# Altium integrated library ON Semi Signal Management IO Expanders.IntLib: 48 symbols (part 1 of 3)
Pins are listed as number, name and electrical type; pins without a type are passive.

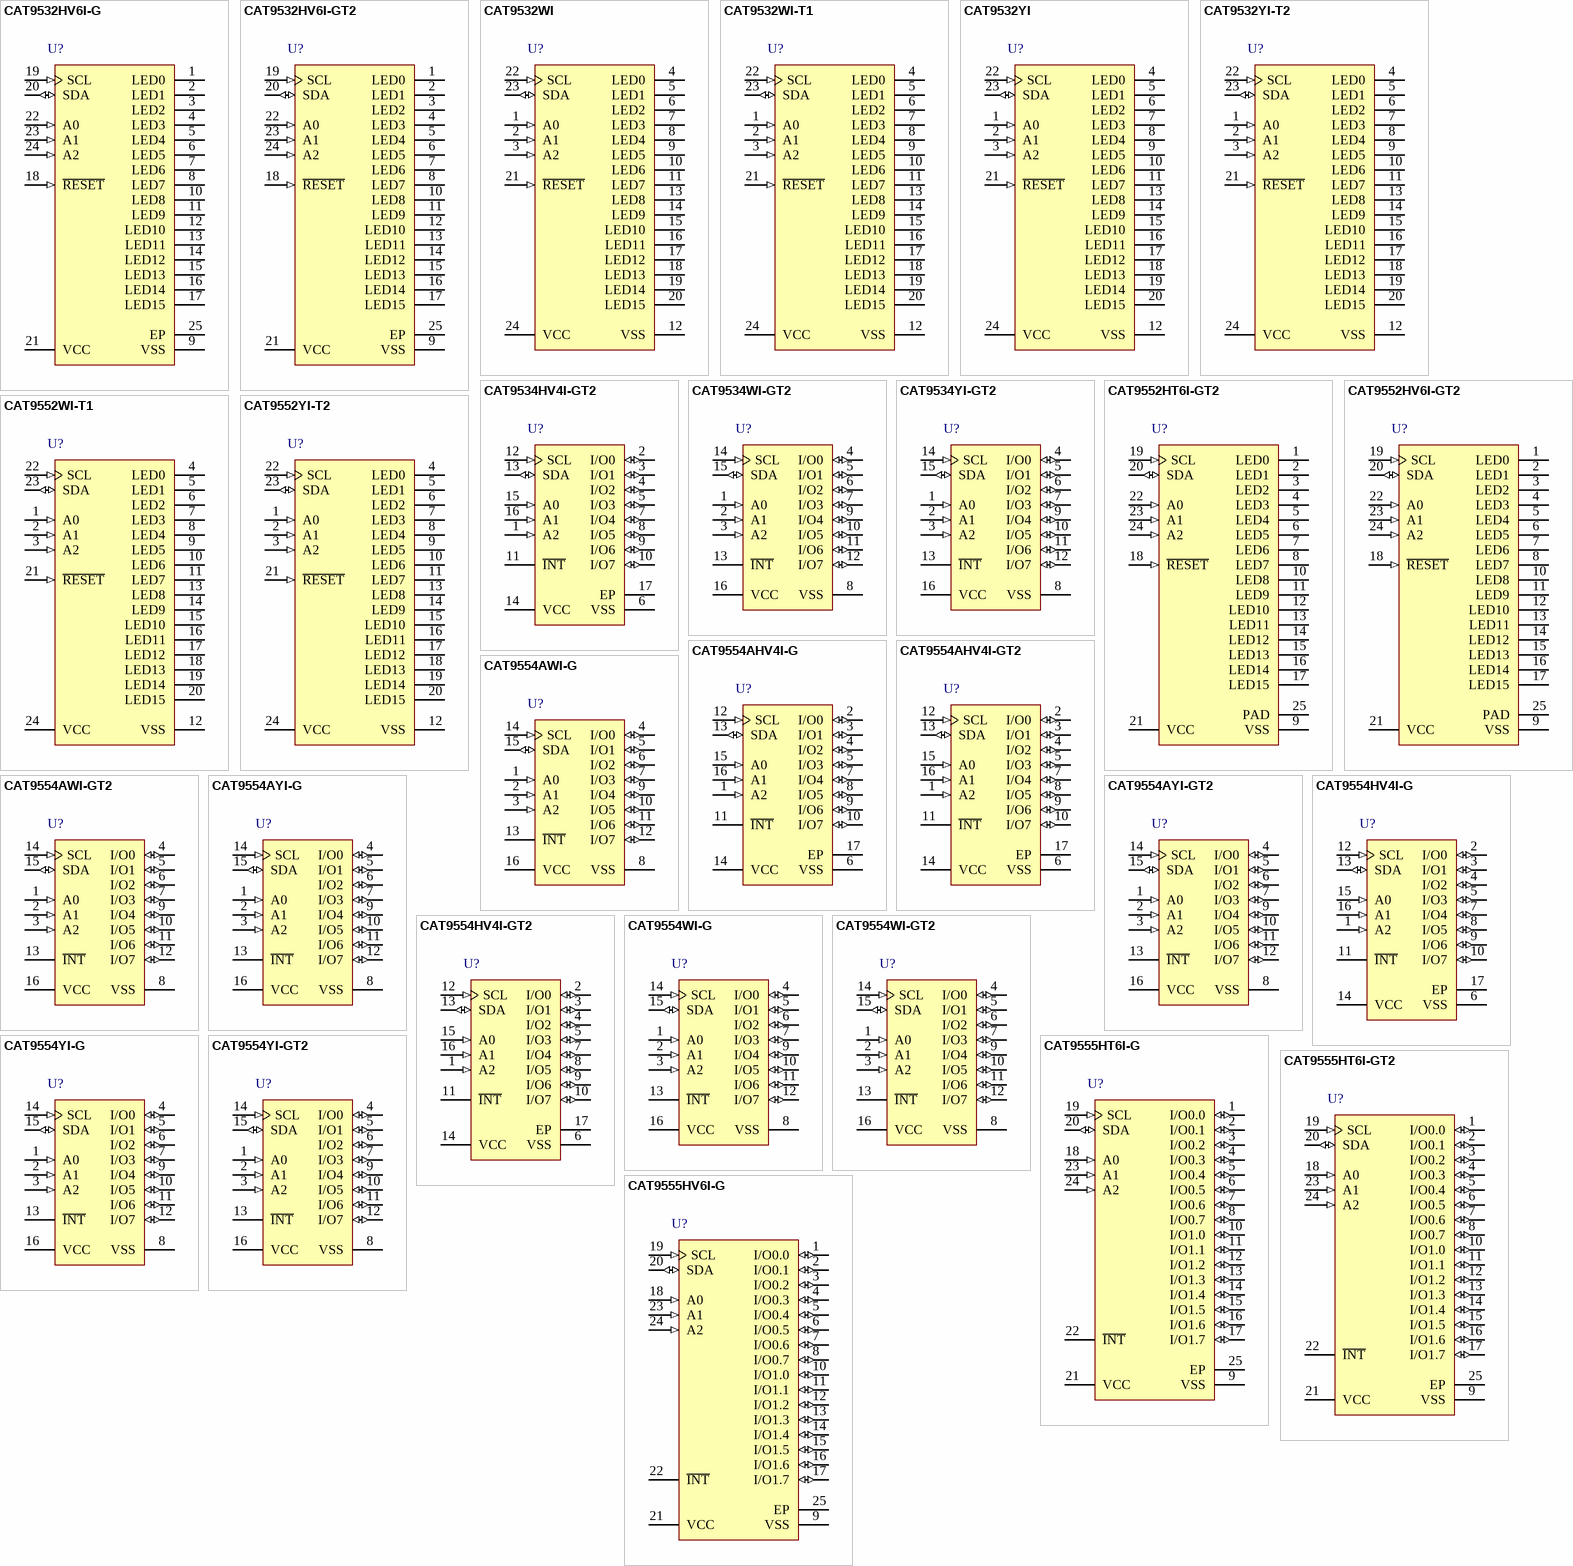
[diagram p0: symbols CAT9532HV6I-G to CAT9555HV6I-G]

## CAT9532HV6I-G
designator U?
16-Bit Programmable LED Dimmer with I2C Interface, 2.3 to 5.5 V, -40 to 85 degC, 24-Pin TQFN, Pb-Free, Tube; Manufacturer: On Semiconductor; PartNumber: CAT9532HV6I-G; I/O: 16; LED Blink/PWM: Yes; VCC Max (V): 5.5; VCC Min (V): 2.3; DatasheetVersion: Rev. 4; PackageVersion: Rev. B, 12/2009; PackageReference: TQFN-24-510AG-01; PackageDescription: 24-Pin Quad Flat No-Lead, Body 4 x 4 mm, Pitch 0.5 mm; Packing: Tube; RoHS: TRUE; Mounting Technology: Surface Mount; Code_JEDEC: MO-220; ComponentLink1Description: Manufacturer URL; ComponentLink1URL: http://www.onsemi.com/; ComponentLink2Description: Datasheet; ComponentLink2URL: http://www.onsemi.com/pub_link/Collateral/CAT9532-D.PDF; ComponentLink3Description: Package Specification; ComponentLink3URL: http://www.onsemi.com/pub_link/Collateral/510AG.PDF
footprint ONSC-TQFN-24-510AG-01_N (QFN, 24-Leads, Body 4x4mm, Pitch 0.5mm, Thermal Pad 2.8x2.8mm, IPC Medium Density)
footprint ONSC-TQFN-24-510AG-01_L (QFN, 24-Leads, Body 4x4mm, Pitch 0.5mm, Thermal Pad 2.8x2.8mm, IPC High Density)
footprint ONSC-TQFN-24-510AG-01_M (QFN, 24-Leads, Body 4x4mm, Pitch 0.5mm, Thermal Pad 2.8x2.8mm, IPC Low Density)
pins: 1 LED0 (power) "LED Driver Output 0,  I/O Port 0", 2 LED1 (power) "LED Driver Output 1,  I/O Port 1", 3 LED2 (power) "LED Driver Output 2,  I/O Port 2", 4 LED3 (power) "LED Driver Output 3,  I/O Port 3", 5 LED4 (power) "LED Driver Output 4,  I/O Port 4", 6 LED5 (power) "LED Driver Output 5,  I/O Port 5", 7 LED6 (power) "LED Driver Output 6,  I/O Port 6", 8 LED7 (power) "LED Driver Output 7,  I/O Port 7", 9 VSS (power) "Ground", 10 LED8 (power) "LED Driver Output 8,  I/O Port 8", 11 LED9 (power) "LED Driver Output 9,  I/O Port 9", 12 LED10 (power) "LED Driver Output 10,  I/O Port 10", 13 LED11 (power) "LED Driver Output 11,  I/O Port 11", 14 LED12 (power) "LED Driver Output 12,  I/O Port 12", 15 LED13 (power) "LED Driver Output 13,  I/O Port 13", 16 LED14 (power) "LED Driver Output 14,  I/O Port 14", 17 LED15 (power) "LED Driver Output 15,  I/O Port 15", 18 ~{RESET} (in) "Reset Input", 19 SCL (in) "Serial Clock", 20 SDA (io) "Serial Data", 21 VCC (power) "Power Supply", 22 A0 (in) "Address Input 0", 23 A1 (in) "Address Input 1", 24 A2 (in) "Address Input 2", 25 EP

## CAT9532HV6I-GT2
designator U?
16-Bit Programmable LED Dimmer with I2C Interface, 2.3 to 5.5 V, -40 to 85 degC, 24-Pin TQFN, Pb-Free, Tape and Reel; Manufacturer: On Semiconductor; PartNumber: CAT9532HV6I-GT2; I/O: 16; LED Blink/PWM: Yes; VCC Max (V): 5.5; VCC Min (V): 2.3; DatasheetVersion: Rev. 4; PackageVersion: Rev. B, 12/2009; PackageReference: TQFN-24-510AG-01; PackageDescription: 24-Pin Quad Flat No-Lead, Body 4 x 4 mm, Pitch 0.5 mm; Supplier 1: Digi-Key; Supplier Part Number 1: CAT9532HV6I-GT2TR-ND; Supplier 2: Digi-Key; Supplier Part Number 2: CAT9532HV6I-GT2CT-ND; Supplier 3: Digi-Key; Supplier Part Number 3: CAT9532HV6I-GT2DKR-ND; Supplier 4: Newark; Supplier Part Number 4: 08R5461; Supplier 5: Newark; Supplier Part Number 5: 06R1482; Supplier 6: Mouser; Supplier Part Number 6: 698-CAT9532HV6I-GT2; Packing: Tape and Reel; RoHS: TRUE; Mounting Technology: Surface Mount; Code_JEDEC: MO-220; ComponentLink1Description: Manufacturer URL; ComponentLink1URL: http://www.onsemi.com/; ComponentLink2Description: Datasheet; ComponentLink2URL: http://www.onsemi.com/pub_link/Collateral/CAT9532-D.PDF; ComponentLink3Description: Package Specification; ComponentLink3URL: http://www.onsemi.com/pub_link/Collateral/510AG.PDF
footprint ONSC-TQFN-24-510AG-01_N (QFN, 24-Leads, Body 4x4mm, Pitch 0.5mm, Thermal Pad 2.8x2.8mm, IPC Medium Density)
footprint ONSC-TQFN-24-510AG-01_L (QFN, 24-Leads, Body 4x4mm, Pitch 0.5mm, Thermal Pad 2.8x2.8mm, IPC High Density)
footprint ONSC-TQFN-24-510AG-01_M (QFN, 24-Leads, Body 4x4mm, Pitch 0.5mm, Thermal Pad 2.8x2.8mm, IPC Low Density)
pins: 1 LED0 (power) "LED Driver Output 0,  I/O Port 0", 2 LED1 (power) "LED Driver Output 1,  I/O Port 1", 3 LED2 (power) "LED Driver Output 2,  I/O Port 2", 4 LED3 (power) "LED Driver Output 3,  I/O Port 3", 5 LED4 (power) "LED Driver Output 4,  I/O Port 4", 6 LED5 (power) "LED Driver Output 5,  I/O Port 5", 7 LED6 (power) "LED Driver Output 6,  I/O Port 6", 8 LED7 (power) "LED Driver Output 7,  I/O Port 7", 9 VSS (power) "Ground", 10 LED8 (power) "LED Driver Output 8,  I/O Port 8", 11 LED9 (power) "LED Driver Output 9,  I/O Port 9", 12 LED10 (power) "LED Driver Output 10,  I/O Port 10", 13 LED11 (power) "LED Driver Output 11,  I/O Port 11", 14 LED12 (power) "LED Driver Output 12,  I/O Port 12", 15 LED13 (power) "LED Driver Output 13,  I/O Port 13", 16 LED14 (power) "LED Driver Output 14,  I/O Port 14", 17 LED15 (power) "LED Driver Output 15,  I/O Port 15", 18 ~{RESET} (in) "Reset Input", 19 SCL (in) "Serial Clock", 20 SDA (io) "Serial Data", 21 VCC (power) "Power Supply", 22 A0 (in) "Address Input 0", 23 A1 (in) "Address Input 1", 24 A2 (in) "Address Input 2", 25 EP

## CAT9532WI
designator U?
16-Bit Programmable LED Dimmer with I2C Interface, 2.3 to 5.5 V, -40 to 85 degC, 24-Pin SOIC, Pb-Free, Tube; Manufacturer: On Semiconductor; PartNumber: CAT9532WI; I/O: 16; LED Blink/PWM: Yes; VCC Max (V): 5.5; VCC Min (V): 2.3; DatasheetVersion: Rev. 4; PackageVersion: Rev. O, 12/2008; PackageReference: SOIC-24-751BK-01; PackageDescription: 24-Pin Small Outline Integrated Circuit, Body 15.3 x 7.47 mm, Pitch 1.27 mm; Supplier 1: Mouser; Supplier Part Number 1: 698-CAT9532WI; Packing: Tube; RoHS: TRUE; Mounting Technology: Surface Mount; Code_JEDEC: MS-013; ComponentLink1Description: Manufacturer URL; ComponentLink1URL: http://www.onsemi.com/; ComponentLink2Description: Datasheet; ComponentLink2URL: http://www.onsemi.com/pub_link/Collateral/CAT9532-D.PDF; ComponentLink3Description: Package Specification; ComponentLink3URL: http://www.onsemi.com/pub/Collateral/751BK.PDF
footprint ONSC-SOIC-24-751BK-01_N (SOIC, 24-Leads, Body 15.4x7.6mm, Pitch 1.27mm, IPC Medium Density)
footprint ONSC-SOIC-24-751BK-01_L (SOIC, 24-Leads, Body 15.4x7.6mm, Pitch 1.27mm, IPC High Density)
footprint ONSC-SOIC-24-751BK-01_M (SOIC, 24-Leads, Body 15.4x7.6mm, Pitch 1.27mm, IPC Low Density)
pins: 1 A0 (in) "Address Input 0", 2 A1 (in) "Address Input 1", 3 A2 (in) "Address Input 2", 4 LED0 (power) "LED Driver Output 0,  I/O Port 0", 5 LED1 (power) "LED Driver Output 1,  I/O Port 1", 6 LED2 (power) "LED Driver Output 2,  I/O Port 2", 7 LED3 (power) "LED Driver Output 3,  I/O Port 3", 8 LED4 (power) "LED Driver Output 4,  I/O Port 4", 9 LED5 (power) "LED Driver Output 5,  I/O Port 5", 10 LED6 (power) "LED Driver Output 6,  I/O Port 6", 11 LED7 (power) "LED Driver Output 7,  I/O Port 7", 12 VSS (power) "Ground", 13 LED8 (power) "LED Driver Output 8,  I/O Port 8", 14 LED9 (power) "LED Driver Output 9,  I/O Port 9", 15 LED10 (power) "LED Driver Output 10,  I/O Port 10", 16 LED11 (power) "LED Driver Output 11,  I/O Port 11", 17 LED12 (power) "LED Driver Output 12,  I/O Port 12", 18 LED13 (power) "LED Driver Output 13,  I/O Port 13", 19 LED14 (power) "LED Driver Output 14,  I/O Port 14", 20 LED15 (power) "LED Driver Output 15,  I/O Port 15", 21 ~{RESET} (in) "Reset Input", 22 SCL (in) "Serial Clock", 23 SDA (io) "Serial Data", 24 VCC (power) "Power Supply"

## CAT9532WI-T1
designator U?
16-Bit Programmable LED Dimmer with I2C Interface, 2.3 to 5.5 V, -40 to 85 degC, 24-Pin SOIC, Pb-Free, Tape and Reel; Manufacturer: On Semiconductor; PartNumber: CAT9532WI-T1; I/O: 16; LED Blink/PWM: Yes; VCC Max (V): 5.5; VCC Min (V): 2.3; DatasheetVersion: Rev. 4; PackageVersion: Rev. O, 12/2008; PackageReference: SOIC-24-751BK-01; PackageDescription: 24-Pin Small Outline Integrated Circuit, Body 15.3 x 7.47 mm, Pitch 1.27 mm; Supplier 1: Digi-Key; Supplier Part Number 1: CAT9532WI-T1TR-ND; Supplier 2: Digi-Key; Supplier Part Number 2: CAT9532WI-T1CT-ND; Supplier 3: Digi-Key; Supplier Part Number 3: CAT9532WI-T1DKR-ND; Supplier 4: Farnell; Supplier Part Number 4: 1656134; Supplier 5: Newark; Supplier Part Number 5: 08R5462; Supplier 6: Mouser; Supplier Part Number 6: 698-CAT9532WI-T1; Packing: Tape and Reel; RoHS: TRUE; Mounting Technology: Surface Mount; Code_JEDEC: MS-013; ComponentLink1Description: Manufacturer URL; ComponentLink1URL: http://www.onsemi.com/; ComponentLink2Description: Datasheet; ComponentLink2URL: http://www.onsemi.com/pub_link/Collateral/CAT9532-D.PDF; ComponentLink3Description: Package Specification; ComponentLink3URL: http://www.onsemi.com/pub/Collateral/751BK.PDF
footprint ONSC-SOIC-24-751BK-01_N (SOIC, 24-Leads, Body 15.4x7.6mm, Pitch 1.27mm, IPC Medium Density)
footprint ONSC-SOIC-24-751BK-01_L (SOIC, 24-Leads, Body 15.4x7.6mm, Pitch 1.27mm, IPC High Density)
footprint ONSC-SOIC-24-751BK-01_M (SOIC, 24-Leads, Body 15.4x7.6mm, Pitch 1.27mm, IPC Low Density)
pins: 1 A0 (in) "Address Input 0", 2 A1 (in) "Address Input 1", 3 A2 (in) "Address Input 2", 4 LED0 (power) "LED Driver Output 0,  I/O Port 0", 5 LED1 (power) "LED Driver Output 1,  I/O Port 1", 6 LED2 (power) "LED Driver Output 2,  I/O Port 2", 7 LED3 (power) "LED Driver Output 3,  I/O Port 3", 8 LED4 (power) "LED Driver Output 4,  I/O Port 4", 9 LED5 (power) "LED Driver Output 5,  I/O Port 5", 10 LED6 (power) "LED Driver Output 6,  I/O Port 6", 11 LED7 (power) "LED Driver Output 7,  I/O Port 7", 12 VSS (power) "Ground", 13 LED8 (power) "LED Driver Output 8,  I/O Port 8", 14 LED9 (power) "LED Driver Output 9,  I/O Port 9", 15 LED10 (power) "LED Driver Output 10,  I/O Port 10", 16 LED11 (power) "LED Driver Output 11,  I/O Port 11", 17 LED12 (power) "LED Driver Output 12,  I/O Port 12", 18 LED13 (power) "LED Driver Output 13,  I/O Port 13", 19 LED14 (power) "LED Driver Output 14,  I/O Port 14", 20 LED15 (power) "LED Driver Output 15,  I/O Port 15", 21 ~{RESET} (in) "Reset Input", 22 SCL (in) "Serial Clock", 23 SDA (io) "Serial Data", 24 VCC (power) "Power Supply"

## CAT9532YI
designator U?
16-Bit Programmable LED Dimmer with I2C Interface, 2.3 to 5.5 V, -40 to 85 degC, 24-Pin TSSOP, Pb-Free, Tube; Manufacturer: On Semiconductor; PartNumber: CAT9532YI; I/O: 16; LED Blink/PWM: Yes; VCC Max (V): 5.5; VCC Min (V): 2.3; DatasheetVersion: Rev. 4; PackageVersion: Rev. A, 03/2009; PackageReference: TSSOP-24-948AR-01; PackageDescription: 24-Pin Small Outline Package, Body 7.8 x 4.4 mm, Pitch 0.65 mm; Supplier 1: Mouser; Supplier Part Number 1: 698-CAT9532YI; Packing: Tube; RoHS: TRUE; Mounting Technology: Surface Mount; Code_JEDEC: MO-153; ComponentLink1Description: Manufacturer URL; ComponentLink1URL: http://www.onsemi.com/; ComponentLink2Description: Datasheet; ComponentLink2URL: http://www.onsemi.com/pub_link/Collateral/CAT9532-D.PDF; ComponentLink3Description: Package Specification; ComponentLink3URL: http://www.onsemi.com/pub_link/Collateral/948AR.PDF
footprint ONSC-TSSOP-24-948AR-01_N (SOP, 24-Leads, Body 7.9x4.5mm, Pitch 0.65mm, IPC Medium Density)
footprint ONSC-TSSOP-24-948AR-01_L (SOP, 24-Leads, Body 7.9x4.5mm, Pitch 0.65mm, IPC High Density)
footprint ONSC-TSSOP-24-948AR-01_M (SOP, 24-Leads, Body 7.9x4.5mm, Pitch 0.65mm, IPC Low Density)
pins: 1 A0 (in) "Address Input 0", 2 A1 (in) "Address Input 1", 3 A2 (in) "Address Input 2", 4 LED0 (power) "LED Driver Output 0,  I/O Port 0", 5 LED1 (power) "LED Driver Output 1,  I/O Port 1", 6 LED2 (power) "LED Driver Output 2,  I/O Port 2", 7 LED3 (power) "LED Driver Output 3,  I/O Port 3", 8 LED4 (power) "LED Driver Output 4,  I/O Port 4", 9 LED5 (power) "LED Driver Output 5,  I/O Port 5", 10 LED6 (power) "LED Driver Output 6,  I/O Port 6", 11 LED7 (power) "LED Driver Output 7,  I/O Port 7", 12 VSS (power) "Ground", 13 LED8 (power) "LED Driver Output 8,  I/O Port 8", 14 LED9 (power) "LED Driver Output 9,  I/O Port 9", 15 LED10 (power) "LED Driver Output 10,  I/O Port 10", 16 LED11 (power) "LED Driver Output 11,  I/O Port 11", 17 LED12 (power) "LED Driver Output 12,  I/O Port 12", 18 LED13 (power) "LED Driver Output 13,  I/O Port 13", 19 LED14 (power) "LED Driver Output 14,  I/O Port 14", 20 LED15 (power) "LED Driver Output 15,  I/O Port 15", 21 ~{RESET} (in) "Reset Input", 22 SCL (in) "Serial Clock", 23 SDA (io) "Serial Data", 24 VCC (power) "Power Supply"

## CAT9532YI-T2
designator U?
16-Bit Programmable LED Dimmer with I2C Interface, 2.3 to 5.5 V, -40 to 85 degC, 24-Pin TSSOP, Pb-Free, Tape and Reel; Manufacturer: On Semiconductor; PartNumber: CAT9532YI-T2; I/O: 16; LED Blink/PWM: Yes; VCC Max (V): 5.5; VCC Min (V): 2.3; DatasheetVersion: Rev. 4; PackageVersion: Rev. A, 03/2009; PackageReference: TSSOP-24-948AR-01; PackageDescription: 24-Pin Small Outline Package, Body 7.8 x 4.4 mm, Pitch 0.65 mm; Supplier 1: Digi-Key; Supplier Part Number 1: CAT9532YI-T2TR-ND; Supplier 2: Digi-Key; Supplier Part Number 2: CAT9532YI-T2CT-ND; Supplier 3: Digi-Key; Supplier Part Number 3: CAT9532YI-T2DKR-ND; Supplier 4: Newark; Supplier Part Number 4: 06R1486; Supplier 5: Mouser; Supplier Part Number 5: 698-CAT9532YI-T2; Packing: Tape and Reel; RoHS: TRUE; Mounting Technology: Surface Mount; Code_JEDEC: MO-153; ComponentLink1Description: Manufacturer URL; ComponentLink1URL: http://www.onsemi.com/; ComponentLink2Description: Datasheet; ComponentLink2URL: http://www.onsemi.com/pub_link/Collateral/CAT9532-D.PDF; ComponentLink3Description: Package Specification; ComponentLink3URL: http://www.onsemi.com/pub_link/Collateral/948AR.PDF
footprint ONSC-TSSOP-24-948AR-01_N (SOP, 24-Leads, Body 7.9x4.5mm, Pitch 0.65mm, IPC Medium Density)
footprint ONSC-TSSOP-24-948AR-01_L (SOP, 24-Leads, Body 7.9x4.5mm, Pitch 0.65mm, IPC High Density)
footprint ONSC-TSSOP-24-948AR-01_M (SOP, 24-Leads, Body 7.9x4.5mm, Pitch 0.65mm, IPC Low Density)
pins: 1 A0 (in) "Address Input 0", 2 A1 (in) "Address Input 1", 3 A2 (in) "Address Input 2", 4 LED0 (power) "LED Driver Output 0,  I/O Port 0", 5 LED1 (power) "LED Driver Output 1,  I/O Port 1", 6 LED2 (power) "LED Driver Output 2,  I/O Port 2", 7 LED3 (power) "LED Driver Output 3,  I/O Port 3", 8 LED4 (power) "LED Driver Output 4,  I/O Port 4", 9 LED5 (power) "LED Driver Output 5,  I/O Port 5", 10 LED6 (power) "LED Driver Output 6,  I/O Port 6", 11 LED7 (power) "LED Driver Output 7,  I/O Port 7", 12 VSS (power) "Ground", 13 LED8 (power) "LED Driver Output 8,  I/O Port 8", 14 LED9 (power) "LED Driver Output 9,  I/O Port 9", 15 LED10 (power) "LED Driver Output 10,  I/O Port 10", 16 LED11 (power) "LED Driver Output 11,  I/O Port 11", 17 LED12 (power) "LED Driver Output 12,  I/O Port 12", 18 LED13 (power) "LED Driver Output 13,  I/O Port 13", 19 LED14 (power) "LED Driver Output 14,  I/O Port 14", 20 LED15 (power) "LED Driver Output 15,  I/O Port 15", 21 ~{RESET} (in) "Reset Input", 22 SCL (in) "Serial Clock", 23 SDA (io) "Serial Data", 24 VCC (power) "Power Supply"

## CAT9534HV4I-GT2
designator U?
8-Bit I2C and SMBus I/O Port with Interrupt, 2.3 to 5.5 V, -40 to 85 degC, 16-Pin TQFN, Pb-Free, Tape and Reel; Manufacturer: On Semiconductor; PartNumber: CAT9534HV4I-GT2; I/O: 8; LED Blink/PWM: No; VCC Max (V): 5.5; VCC Min (V): 2.3; DatasheetVersion: Rev. 0; PackageVersion: Rev. A, 03/2009; PackageReference: TQFN-16-510AE-01; PackageDescription: 16-Pin Quad Flat No-Lead, Body 4 x 4 mm, Pitch 0.65 mm; Supplier 1: Digi-Key; Supplier Part Number 1: CAT9534HV4I-GT2-ND; Supplier 2: Mouser; Supplier Part Number 2: 863-CAT9534HV4I-GT2; Packing: Tape and Reel; RoHS: TRUE; Mounting Technology: Surface Mount; Code_JEDEC: MO-220; ComponentLink1Description: Manufacturer URL; ComponentLink1URL: http://www.onsemi.com/; ComponentLink2Description: Datasheet; ComponentLink2URL: http://www.onsemi.com/pub_link/Collateral/CAT9534-D.PDF; ComponentLink3Description: Package Specification; ComponentLink3URL: http://www.onsemi.com/pub_link/Collateral/510AE.PDF
footprint ONSC-TQFN-16-510AE-01_N (QFN, 16-Leads, Body 4.1x4.1mm, Pitch 0.65mm, Thermal Pad 2.13x2.13mm, IPC Medium Density)
footprint ONSC-TQFN-16-510AE-01_L (QFN, 16-Leads, Body 4.1x4.1mm, Pitch 0.65mm, Thermal Pad 2.13x2.13mm, IPC High Density)
footprint ONSC-TQFN-16-510AE-01_M (QFN, 16-Leads, Body 4.1x4.1mm, Pitch 0.65mm, Thermal Pad 2.13x2.13mm, IPC Low Density)
pins: 1 A2 (in) "Address Input 2", 2 I/O0 (io) "Input/Output Port 0", 3 I/O1 (io) "Input/Output Port 1", 4 I/O2 (io) "Input/Output Port 2", 5 I/O3 (io) "Input/Output Port 3", 6 VSS (power) "Ground", 7 I/O4 (io) "Input/Output Port 4", 8 I/O5 (io) "Input/Output Port 5", 9 I/O6 (io) "Input/Output Port 6", 10 I/O7 (io) "Input/Output Port 7", 11 ~{INT} (oc) "Interrupt Output (open drain)", 12 SCL (in) "Serial Clock", 13 SDA (io) "Serial Data", 14 VCC (power) "Power Supply", 15 A0 (in) "Address Input 0", 16 A1 (in) "Address Input 1", 17 EP

## CAT9534WI-GT2
designator U?
8-Bit I2C and SMBus I/O Port with Interrupt, 2.3 to 5.5 V, -40 to 85 degC, 16-Pin SOIC, Pb-Free, Tape and Reel; Manufacturer: On Semiconductor; PartNumber: CAT9534WI-GT2; I/O: 8; LED Blink/PWM: No; VCC Max (V): 5.5; VCC Min (V): 2.3; DatasheetVersion: Rev. 0; PackageVersion: Rev. O, 12/2008; PackageReference: SOIC-16-751BG-01; PackageDescription: 16-Pin Small Outline Integrated Circuit, Body 9.9 x 3.9 mm, Pitch 1.27 mm; Supplier 1: Digi-Key; Supplier Part Number 1: CAT9534WI-GT2TR-ND; Supplier 2: Digi-Key; Supplier Part Number 2: CAT9534WI-GT2CT-ND; Supplier 3: Digi-Key; Supplier Part Number 3: CAT9534WI-GT2DKR-ND; Supplier 4: Mouser; Supplier Part Number 4: 698-CAT9534WI-GT2; Packing: Tape and Reel; RoHS: TRUE; Mounting Technology: Surface Mount; Code_JEDEC: MS-012; ComponentLink1Description: Manufacturer URL; ComponentLink1URL: http://www.onsemi.com/; ComponentLink2Description: Datasheet; ComponentLink2URL: http://www.onsemi.com/pub_link/Collateral/CAT9534-D.PDF; ComponentLink3Description: Package Specification; ComponentLink3URL: http://www.onsemi.com/pub_link/Collateral/751BG.PDF
footprint ONSC-SOIC-16-751BG-01_N (SOIC, 16-Leads, Body 10x4mm, Pitch 1.27mm, IPC Medium Density)
footprint ONSC-SOIC-16-751BG-01_L (SOIC, 16-Leads, Body 10x4mm, Pitch 1.27mm, IPC High Density)
footprint ONSC-SOIC-16-751BG-01_M (SOIC, 16-Leads, Body 10x4mm, Pitch 1.27mm, IPC Low Density)
pins: 1 A0 (in) "Address Input 0", 2 A1 (in) "Address Input 1", 3 A2 (in) "Address Input 2", 4 I/O0 (io) "Input/Output Port 0", 5 I/O1 (io) "Input/Output Port 1", 6 I/O2 (io) "Input/Output Port 2", 7 I/O3 (io) "Input/Output Port 3", 8 VSS (power) "Ground", 9 I/O4 (io) "Input/Output Port 4", 10 I/O5 (io) "Input/Output Port 5", 11 I/O6 (io) "Input/Output Port 6", 12 I/O7 (io) "Input/Output Port 7", 13 ~{INT} (oc) "Interrupt Output (open drain)", 14 SCL (in) "Serial Clock", 15 SDA (io) "Serial Data", 16 VCC (power) "Power Supply"

## CAT9534YI-GT2
designator U?
8-Bit I2C and SMBus I/O Port with Interrupt, 2.3 to 5.5 V, -40 to 85 degC, 16-Pin TSSOP, Pb-Free, Tape and Reel; Manufacturer: On Semiconductor; PartNumber: CAT9534YI-GT2; I/O: 8; LED Blink/PWM: No; VCC Max (V): 5.5; VCC Min (V): 2.3; DatasheetVersion: Rev. 0; PackageVersion: Rev. O, 12/2008; PackageReference: TSSOP-16-948AN-01; PackageDescription: 16-Pin Small Outline Package, Body 5 x 4.4 mm, Pitch 0.65 mm; Supplier 1: Digi-Key; Supplier Part Number 1: CAT9534YI-GT2TR-ND; Supplier 2: Digi-Key; Supplier Part Number 2: CAT9534YI-GT2CT-ND; Supplier 3: Digi-Key; Supplier Part Number 3: CAT9534YI-GT2DKR-ND; Supplier 4: Mouser; Supplier Part Number 4: 698-CAT9534YI-GT2; Packing: Tape and Reel; RoHS: TRUE; Mounting Technology: Surface Mount; Code_JEDEC: MO-153; ComponentLink1Description: Manufacturer URL; ComponentLink1URL: http://www.onsemi.com/; ComponentLink2Description: Datasheet; ComponentLink2URL: http://www.onsemi.com/pub_link/Collateral/CAT9534-D.PDF; ComponentLink3Description: Package Specification; ComponentLink3URL: http://www.onsemi.com/pub_link/Collateral/948AN.PDF
footprint ONSC-TSSOP-16-948AN-01_N (SOP, 16-Leads, Body 5.1x4.5mm, Pitch 0.65mm, IPC Medium Density)
footprint ONSC-TSSOP-16-948AN-01_L (SOP, 16-Leads, Body 5.1x4.5mm, Pitch 0.65mm, IPC High Density)
footprint ONSC-TSSOP-16-948AN-01_M (SOP, 16-Leads, Body 5.1x4.5mm, Pitch 0.65mm, IPC Low Density)
pins: 1 A0 (in) "Address Input 0", 2 A1 (in) "Address Input 1", 3 A2 (in) "Address Input 2", 4 I/O0 (io) "Input/Output Port 0", 5 I/O1 (io) "Input/Output Port 1", 6 I/O2 (io) "Input/Output Port 2", 7 I/O3 (io) "Input/Output Port 3", 8 VSS (power) "Ground", 9 I/O4 (io) "Input/Output Port 4", 10 I/O5 (io) "Input/Output Port 5", 11 I/O6 (io) "Input/Output Port 6", 12 I/O7 (io) "Input/Output Port 7", 13 ~{INT} (oc) "Interrupt Output (open drain)", 14 SCL (in) "Serial Clock", 15 SDA (io) "Serial Data", 16 VCC (power) "Power Supply"

## CAT9552HT6I-GT2
designator U?
16-Channel I2C-Bus LED Driver with Programmable Blink Rate, 2.3 to 5.5 V, -40 to 85 degC, 24-Pin TQFN, Pb-Free, Tape and Reel; Manufacturer: On Semiconductor; PartNumber: CAT9552HT6I-GT2; I/O: 16; LED Blink/PWM: Yes; VCC Max (V): 5.5; VCC Min (V): 2.3; DatasheetVersion: Rev. 0; PackageVersion: Rev. O; PackageReference: TQFN-24-510AN-01; PackageDescription: 24-Pin Quad Flat No-Lead, Body 4 x 4 mm, Pitch 0.5 mm; Packing: Tape and Reel; RoHS: TRUE; Mounting Technology: Surface Mount; Code_JEDEC: MO-220; ComponentLink1Description: Manufacturer URL; ComponentLink1URL: http://www.onsemi.com/; ComponentLink2Description: Datasheet; ComponentLink2URL: http://www.onsemi.com/pub_link/Collateral/CAT9552-D.PDF; ComponentLink3Description: Package Specification; ComponentLink3URL: http://www.onsemi.com/pub_link/Collateral/CAT9552-D.PDF
footprint ONSC-TQFN-24-510AN-01_N (QFN, 24-Leads, Body 4x4mm, Pitch 0.5mm, Thermal Pad 2.1x2.1mm, IPC Medium Density)
footprint ONSC-TQFN-24-510AN-01_L (QFN, 24-Leads, Body 4x4mm, Pitch 0.5mm, Thermal Pad 2.1x2.1mm, IPC High Density)
footprint ONSC-TQFN-24-510AN-01_M (QFN, 24-Leads, Body 4x4mm, Pitch 0.5mm, Thermal Pad 2.1x2.1mm, IPC Low Density)
pins: 1 LED0 (power) "LED Driver Output 0,  I/O Port 0", 2 LED1 (power) "LED Driver Output 1,  I/O Port 1", 3 LED2 (power) "LED Driver Output 2,  I/O Port 2", 4 LED3 (power) "LED Driver Output 3,  I/O Port 3", 5 LED4 (power) "LED Driver Output 4,  I/O Port 4", 6 LED5 (power) "LED Driver Output 5,  I/O Port 5", 7 LED6 (power) "LED Driver Output 6,  I/O Port 6", 8 LED7 (power) "LED Driver Output 7,  I/O Port 7", 9 VSS (power) "Ground", 10 LED8 (power) "LED Driver Output 8,  I/O Port 8", 11 LED9 (power) "LED Driver Output 9,  I/O Port 9", 12 LED10 (power) "LED Driver Output 10,  I/O Port 10", 13 LED11 (power) "LED Driver Output 11,  I/O Port 11", 14 LED12 (power) "LED Driver Output 12,  I/O Port 12", 15 LED13 (power) "LED Driver Output 13,  I/O Port 13", 16 LED14 (power) "LED Driver Output 14,  I/O Port 14", 17 LED15 (power) "LED Driver Output 15,  I/O Port 15", 18 ~{RESET} (in) "Reset Input", 19 SCL (in) "Serial Clock", 20 SDA (io) "Serial Data", 21 VCC (power) "Power Supply", 22 A0 (in) "Address Input 0", 23 A1 (in) "Address Input 1", 24 A2 (in) "Address Input 2", 25 PAD (power) "For enhanced heat dissipation. Electrically this pad must be at ground potential."

## CAT9552HV6I-GT2
designator U?
16-Channel I2C-Bus LED Driver with Programmable Blink Rate, 2.3 to 5.5 V, -40 to 85 degC, 24-Pin TQFN, Pb-Free, Tape and Reel; Manufacturer: On Semiconductor; PartNumber: CAT9552HV6I-GT2; I/O: 16; LED Blink/PWM: Yes; VCC Max (V): 5.5; VCC Min (V): 2.3; DatasheetVersion: Rev. 0; PackageVersion: Rev. O; PackageReference: TQFN-24-510AN-01; PackageDescription: 24-Pin Quad Flat No-Lead, Body 4 x 4 mm, Pitch 0.5 mm; Supplier 1: Digi-Key; Supplier Part Number 1: CAT9552HV6I-GT2-ND; Supplier 2: Mouser; Supplier Part Number 2: 698-CAT9552HV6I-GT2; Packing: Tape and Reel; RoHS: TRUE; Mounting Technology: Surface Mount; Code_JEDEC: MO-220; ComponentLink1Description: Manufacturer URL; ComponentLink1URL: http://www.onsemi.com/; ComponentLink2Description: Datasheet; ComponentLink2URL: http://www.onsemi.com/pub_link/Collateral/CAT9552-D.PDF; ComponentLink3Description: Package Specification; ComponentLink3URL: http://www.onsemi.com/pub_link/Collateral/CAT9552-D.PDF
footprint ONSC-TQFN-24-510AN-01_N (QFN, 24-Leads, Body 4x4mm, Pitch 0.5mm, Thermal Pad 2.1x2.1mm, IPC Medium Density)
footprint ONSC-TQFN-24-510AN-01_L (QFN, 24-Leads, Body 4x4mm, Pitch 0.5mm, Thermal Pad 2.1x2.1mm, IPC High Density)
footprint ONSC-TQFN-24-510AN-01_M (QFN, 24-Leads, Body 4x4mm, Pitch 0.5mm, Thermal Pad 2.1x2.1mm, IPC Low Density)
pins: 1 LED0 (power) "LED Driver Output 0,  I/O Port 0", 2 LED1 (power) "LED Driver Output 1,  I/O Port 1", 3 LED2 (power) "LED Driver Output 2,  I/O Port 2", 4 LED3 (power) "LED Driver Output 3,  I/O Port 3", 5 LED4 (power) "LED Driver Output 4,  I/O Port 4", 6 LED5 (power) "LED Driver Output 5,  I/O Port 5", 7 LED6 (power) "LED Driver Output 6,  I/O Port 6", 8 LED7 (power) "LED Driver Output 7,  I/O Port 7", 9 VSS (power) "Ground", 10 LED8 (power) "LED Driver Output 8,  I/O Port 8", 11 LED9 (power) "LED Driver Output 9,  I/O Port 9", 12 LED10 (power) "LED Driver Output 10,  I/O Port 10", 13 LED11 (power) "LED Driver Output 11,  I/O Port 11", 14 LED12 (power) "LED Driver Output 12,  I/O Port 12", 15 LED13 (power) "LED Driver Output 13,  I/O Port 13", 16 LED14 (power) "LED Driver Output 14,  I/O Port 14", 17 LED15 (power) "LED Driver Output 15,  I/O Port 15", 18 ~{RESET} (in) "Reset Input", 19 SCL (in) "Serial Clock", 20 SDA (io) "Serial Data", 21 VCC (power) "Power Supply", 22 A0 (in) "Address Input 0", 23 A1 (in) "Address Input 1", 24 A2 (in) "Address Input 2", 25 PAD (power) "For enhanced heat dissipation. Electrically this pad must be at ground potential."

## CAT9552WI-T1
designator U?
16-Channel I2C-Bus LED Driver with Programmable Blink Rate, 2.3 to 5.5 V, -40 to 85 degC, 24-Pin SOIC, Pb-Free, Tape and Reel; Manufacturer: On Semiconductor; PartNumber: CAT9552WI-T1; I/O: 16; LED Blink/PWM: Yes; VCC Max (V): 5.5; VCC Min (V): 2.3; DatasheetVersion: Rev. 0; PackageVersion: Rev. O, 12/2008; PackageReference: SOIC-24-751BK-01; PackageDescription: 24-Pin Small Outline Integrated Circuit, Body 15.3 x 7.47 mm, Pitch 1.27 mm; Supplier 1: Digi-Key; Supplier Part Number 1: CAT9552WI-T1TR-ND; Supplier 2: Digi-Key; Supplier Part Number 2: CAT9552WI-T1CT-ND; Supplier 3: Digi-Key; Supplier Part Number 3: CAT9552WI-T1DKR-ND; Supplier 4: Mouser; Supplier Part Number 4: 698-CAT9552WI-T1; Packing: Tape and Reel; RoHS: TRUE; Mounting Technology: Surface Mount; Code_JEDEC: MS-013; ComponentLink1Description: Manufacturer URL; ComponentLink1URL: http://www.onsemi.com/; ComponentLink2Description: Datasheet; ComponentLink2URL: http://www.onsemi.com/pub_link/Collateral/CAT9552-D.PDF; ComponentLink3Description: Package Specification; ComponentLink3URL: http://www.onsemi.com/pub/Collateral/751BK.PDF
footprint ONSC-SOIC-24-751BK-01_N (SOIC, 24-Leads, Body 15.4x7.6mm, Pitch 1.27mm, IPC Medium Density)
footprint ONSC-SOIC-24-751BK-01_L (SOIC, 24-Leads, Body 15.4x7.6mm, Pitch 1.27mm, IPC High Density)
footprint ONSC-SOIC-24-751BK-01_M (SOIC, 24-Leads, Body 15.4x7.6mm, Pitch 1.27mm, IPC Low Density)
pins: 1 A0 (in) "Address Input 0", 2 A1 (in) "Address Input 1", 3 A2 (in) "Address Input 2", 4 LED0 (power) "LED Driver Output 0,  I/O Port 0", 5 LED1 (power) "LED Driver Output 1,  I/O Port 1", 6 LED2 (power) "LED Driver Output 2,  I/O Port 2", 7 LED3 (power) "LED Driver Output 3,  I/O Port 3", 8 LED4 (power) "LED Driver Output 4,  I/O Port 4", 9 LED5 (power) "LED Driver Output 5,  I/O Port 5", 10 LED6 (power) "LED Driver Output 6,  I/O Port 6", 11 LED7 (power) "LED Driver Output 7,  I/O Port 7", 12 VSS (power) "Ground", 13 LED8 (power) "LED Driver Output 8,  I/O Port 8", 14 LED9 (power) "LED Driver Output 9,  I/O Port 9", 15 LED10 (power) "LED Driver Output 10,  I/O Port 10", 16 LED11 (power) "LED Driver Output 11,  I/O Port 11", 17 LED12 (power) "LED Driver Output 12,  I/O Port 12", 18 LED13 (power) "LED Driver Output 13,  I/O Port 13", 19 LED14 (power) "LED Driver Output 14,  I/O Port 14", 20 LED15 (power) "LED Driver Output 15,  I/O Port 15", 21 ~{RESET} (in) "Reset Input", 22 SCL (in) "Serial Clock", 23 SDA (io) "Serial Data", 24 VCC (power) "Power Supply"

## CAT9552YI-T2
designator U?
16-Channel I2C-Bus LED Driver with Programmable Blink Rate, 2.3 to 5.5 V, -40 to 85 degC, 24-Pin TSSOP, Pb-Free, Tape and Reel; Manufacturer: On Semiconductor; PartNumber: CAT9552YI-T2; I/O: 16; LED Blink/PWM: Yes; VCC Max (V): 5.5; VCC Min (V): 2.3; DatasheetVersion: Rev. 0; PackageVersion: Rev. A, 03/2009; PackageReference: TSSOP-24-948AR-01; PackageDescription: 24-Pin Small Outline Package, Body 7.8 x 4.4 mm, Pitch 0.65 mm; Supplier 1: Digi-Key; Supplier Part Number 1: CAT9552YI-T2TR-ND; Supplier 2: Digi-Key; Supplier Part Number 2: CAT9552YI-T2CT-ND; Supplier 3: Digi-Key; Supplier Part Number 3: CAT9552YI-T2DKR-ND; Supplier 4: Newark; Supplier Part Number 4: 06R1490; Supplier 5: Mouser; Supplier Part Number 5: 698-CAT9552YI-T2; Packing: Tape and Reel; RoHS: TRUE; Mounting Technology: Surface Mount; Code_JEDEC: MO-153; ComponentLink1Description: Manufacturer URL; ComponentLink1URL: http://www.onsemi.com/; ComponentLink2Description: Datasheet; ComponentLink2URL: http://www.onsemi.com/pub_link/Collateral/CAT9552-D.PDF; ComponentLink3Description: Package Specification; ComponentLink3URL: http://www.onsemi.com/pub_link/Collateral/948AR.PDF
footprint ONSC-TSSOP-24-948AR-01_N (SOP, 24-Leads, Body 7.9x4.5mm, Pitch 0.65mm, IPC Medium Density)
footprint ONSC-TSSOP-24-948AR-01_L (SOP, 24-Leads, Body 7.9x4.5mm, Pitch 0.65mm, IPC High Density)
footprint ONSC-TSSOP-24-948AR-01_M (SOP, 24-Leads, Body 7.9x4.5mm, Pitch 0.65mm, IPC Low Density)
pins: 1 A0 (in) "Address Input 0", 2 A1 (in) "Address Input 1", 3 A2 (in) "Address Input 2", 4 LED0 (power) "LED Driver Output 0,  I/O Port 0", 5 LED1 (power) "LED Driver Output 1,  I/O Port 1", 6 LED2 (power) "LED Driver Output 2,  I/O Port 2", 7 LED3 (power) "LED Driver Output 3,  I/O Port 3", 8 LED4 (power) "LED Driver Output 4,  I/O Port 4", 9 LED5 (power) "LED Driver Output 5,  I/O Port 5", 10 LED6 (power) "LED Driver Output 6,  I/O Port 6", 11 LED7 (power) "LED Driver Output 7,  I/O Port 7", 12 VSS (power) "Ground", 13 LED8 (power) "LED Driver Output 8,  I/O Port 8", 14 LED9 (power) "LED Driver Output 9,  I/O Port 9", 15 LED10 (power) "LED Driver Output 10,  I/O Port 10", 16 LED11 (power) "LED Driver Output 11,  I/O Port 11", 17 LED12 (power) "LED Driver Output 12,  I/O Port 12", 18 LED13 (power) "LED Driver Output 13,  I/O Port 13", 19 LED14 (power) "LED Driver Output 14,  I/O Port 14", 20 LED15 (power) "LED Driver Output 15,  I/O Port 15", 21 ~{RESET} (in) "Reset Input", 22 SCL (in) "Serial Clock", 23 SDA (io) "Serial Data", 24 VCC (power) "Power Supply"

## CAT9554AHV4I-G
designator U?
8-Bit I2C and SMBus I/O Port with Interrupt, 2.3 to 5.5 V, -40 to 85 degC, 16-Pin TQFN, Pb-Free, Tube; Manufacturer: On Semiconductor; PartNumber: CAT9554AHV4I-G; I/O: 8; LED Blink/PWM: No; VCC Max (V): 5.5; VCC Min (V): 2.3; DatasheetVersion: Rev. 6; PackageVersion: Rev. A, 03/2009; PackageReference: TQFN-16-510AE-01; PackageDescription: 16-Pin Quad Flat No-Lead, Body 4 x 4 mm, Pitch 0.65 mm; Packing: Tube; RoHS: TRUE; Mounting Technology: Surface Mount; Code_JEDEC: MO-220; ComponentLink1Description: Manufacturer URL; ComponentLink1URL: http://www.onsemi.com/; ComponentLink2Description: Datasheet; ComponentLink2URL: http://www.onsemi.com/pub_link/Collateral/CAT9554A-D.PDF; ComponentLink3Description: Package Specification; ComponentLink3URL: http://www.onsemi.com/pub_link/Collateral/510AE.PDF
footprint ONSC-TQFN-16-510AE-01_N (QFN, 16-Leads, Body 4.1x4.1mm, Pitch 0.65mm, Thermal Pad 2.13x2.13mm, IPC Medium Density)
footprint ONSC-TQFN-16-510AE-01_L (QFN, 16-Leads, Body 4.1x4.1mm, Pitch 0.65mm, Thermal Pad 2.13x2.13mm, IPC High Density)
footprint ONSC-TQFN-16-510AE-01_M (QFN, 16-Leads, Body 4.1x4.1mm, Pitch 0.65mm, Thermal Pad 2.13x2.13mm, IPC Low Density)
pins: 1 A2 (in) "Address Input 2", 2 I/O0 (io) "Input/Output Port 0", 3 I/O1 (io) "Input/Output Port 1", 4 I/O2 (io) "Input/Output Port 2", 5 I/O3 (io) "Input/Output Port 3", 6 VSS (power) "Ground", 7 I/O4 (io) "Input/Output Port 4", 8 I/O5 (io) "Input/Output Port 5", 9 I/O6 (io) "Input/Output Port 6", 10 I/O7 (io) "Input/Output Port 7", 11 ~{INT} (oc) "Interrupt Output (open drain)", 12 SCL (in) "Serial Clock", 13 SDA (io) "Serial Data", 14 VCC (power) "Power Supply", 15 A0 (in) "Address Input 0", 16 A1 (in) "Address Input 1", 17 EP

## CAT9554AHV4I-GT2
designator U?
8-Bit I2C and SMBus I/O Port with Interrupt, 2.3 to 5.5 V, -40 to 85 degC, 16-Pin TQFN, Pb-Free, Tape and Reel; Manufacturer: On Semiconductor; PartNumber: CAT9554AHV4I-GT2; I/O: 8; LED Blink/PWM: No; VCC Max (V): 5.5; VCC Min (V): 2.3; DatasheetVersion: Rev. 6; PackageVersion: Rev. A, 03/2009; PackageReference: TQFN-16-510AE-01; PackageDescription: 16-Pin Quad Flat No-Lead, Body 4 x 4 mm, Pitch 0.65 mm; Supplier 1: Digi-Key; Supplier Part Number 1: CAT9554AHV4I-GT2-ND; Supplier 2: Mouser; Supplier Part Number 2: 863-CAT9554AHV4I-GT2; Packing: Tape and Reel; RoHS: TRUE; Mounting Technology: Surface Mount; Code_JEDEC: MO-220; ComponentLink1Description: Manufacturer URL; ComponentLink1URL: http://www.onsemi.com/; ComponentLink2Description: Datasheet; ComponentLink2URL: http://www.onsemi.com/pub_link/Collateral/CAT9554A-D.PDF; ComponentLink3Description: Package Specification; ComponentLink3URL: http://www.onsemi.com/pub_link/Collateral/510AE.PDF
footprint ONSC-TQFN-16-510AE-01_N (QFN, 16-Leads, Body 4.1x4.1mm, Pitch 0.65mm, Thermal Pad 2.13x2.13mm, IPC Medium Density)
footprint ONSC-TQFN-16-510AE-01_L (QFN, 16-Leads, Body 4.1x4.1mm, Pitch 0.65mm, Thermal Pad 2.13x2.13mm, IPC High Density)
footprint ONSC-TQFN-16-510AE-01_M (QFN, 16-Leads, Body 4.1x4.1mm, Pitch 0.65mm, Thermal Pad 2.13x2.13mm, IPC Low Density)
pins: 1 A2 (in) "Address Input 2", 2 I/O0 (io) "Input/Output Port 0", 3 I/O1 (io) "Input/Output Port 1", 4 I/O2 (io) "Input/Output Port 2", 5 I/O3 (io) "Input/Output Port 3", 6 VSS (power) "Ground", 7 I/O4 (io) "Input/Output Port 4", 8 I/O5 (io) "Input/Output Port 5", 9 I/O6 (io) "Input/Output Port 6", 10 I/O7 (io) "Input/Output Port 7", 11 ~{INT} (oc) "Interrupt Output (open drain)", 12 SCL (in) "Serial Clock", 13 SDA (io) "Serial Data", 14 VCC (power) "Power Supply", 15 A0 (in) "Address Input 0", 16 A1 (in) "Address Input 1", 17 EP

## CAT9554AWI-G
designator U?
8-Bit I2C and SMBus I/O Port with Interrupt, 2.3 to 5.5 V, -40 to 85 degC, 16-Pin SOIC, Pb-Free, Tube; Manufacturer: On Semiconductor; PartNumber: CAT9554AWI-G; I/O: 8; LED Blink/PWM: No; VCC Max (V): 5.5; VCC Min (V): 2.3; DatasheetVersion: Rev. 6; PackageVersion: Rev. O, 12/2008; PackageReference: SOIC-16-751BG-01; PackageDescription: 16-Pin Small Outline Integrated Circuit, Body 9.9 x 3.9 mm, Pitch 1.27 mm; Packing: Tube; RoHS: TRUE; Mounting Technology: Surface Mount; Code_JEDEC: MS-012; ComponentLink1Description: Manufacturer URL; ComponentLink1URL: http://www.onsemi.com/; ComponentLink2Description: Datasheet; ComponentLink2URL: http://www.onsemi.com/pub_link/Collateral/CAT9554A-D.PDF; ComponentLink3Description: Package Specification; ComponentLink3URL: http://www.onsemi.com/pub_link/Collateral/751BG.PDF
footprint ONSC-SOIC-16-751BG-01_N (SOIC, 16-Leads, Body 10x4mm, Pitch 1.27mm, IPC Medium Density)
footprint ONSC-SOIC-16-751BG-01_L (SOIC, 16-Leads, Body 10x4mm, Pitch 1.27mm, IPC High Density)
footprint ONSC-SOIC-16-751BG-01_M (SOIC, 16-Leads, Body 10x4mm, Pitch 1.27mm, IPC Low Density)
pins: 1 A0 (in) "Address Input 0", 2 A1 (in) "Address Input 1", 3 A2 (in) "Address Input 2", 4 I/O0 (io) "Input/Output Port 0", 5 I/O1 (io) "Input/Output Port 1", 6 I/O2 (io) "Input/Output Port 2", 7 I/O3 (io) "Input/Output Port 3", 8 VSS (power) "Ground", 9 I/O4 (io) "Input/Output Port 4", 10 I/O5 (io) "Input/Output Port 5", 11 I/O6 (io) "Input/Output Port 6", 12 I/O7 (io) "Input/Output Port 7", 13 ~{INT} (oc) "Interrupt Output (open drain)", 14 SCL (in) "Serial Clock", 15 SDA (io) "Serial Data", 16 VCC (power) "Power Supply"

## CAT9554AWI-GT2
designator U?
8-Bit I2C and SMBus I/O Port with Interrupt, 2.3 to 5.5 V, -40 to 85 degC, 16-Pin SOIC, Pb-Free, Tape and Reel; Manufacturer: On Semiconductor; PartNumber: CAT9554AWI-GT2; I/O: 8; LED Blink/PWM: No; VCC Max (V): 5.5; VCC Min (V): 2.3; DatasheetVersion: Rev. 6; PackageVersion: Rev. O, 12/2008; PackageReference: SOIC-16-751BG-01; PackageDescription: 16-Pin Small Outline Integrated Circuit, Body 9.9 x 3.9 mm, Pitch 1.27 mm; Supplier 1: Digi-Key; Supplier Part Number 1: CAT9554AWI-GT2TR-ND; Supplier 2: Digi-Key; Supplier Part Number 2: CAT9554AWI-GT2CT-ND; Supplier 3: Digi-Key; Supplier Part Number 3: CAT9554AWI-GT2DKR-ND; Supplier 4: Mouser; Supplier Part Number 4: 698-CAT9554AWI-GT2; Packing: Tape and Reel; RoHS: TRUE; Mounting Technology: Surface Mount; Code_JEDEC: MS-012; ComponentLink1Description: Manufacturer URL; ComponentLink1URL: http://www.onsemi.com/; ComponentLink2Description: Datasheet; ComponentLink2URL: http://www.onsemi.com/pub_link/Collateral/CAT9554A-D.PDF; ComponentLink3Description: Package Specification; ComponentLink3URL: http://www.onsemi.com/pub_link/Collateral/751BG.PDF
footprint ONSC-SOIC-16-751BG-01_N (SOIC, 16-Leads, Body 10x4mm, Pitch 1.27mm, IPC Medium Density)
footprint ONSC-SOIC-16-751BG-01_L (SOIC, 16-Leads, Body 10x4mm, Pitch 1.27mm, IPC High Density)
footprint ONSC-SOIC-16-751BG-01_M (SOIC, 16-Leads, Body 10x4mm, Pitch 1.27mm, IPC Low Density)
pins: 1 A0 (in) "Address Input 0", 2 A1 (in) "Address Input 1", 3 A2 (in) "Address Input 2", 4 I/O0 (io) "Input/Output Port 0", 5 I/O1 (io) "Input/Output Port 1", 6 I/O2 (io) "Input/Output Port 2", 7 I/O3 (io) "Input/Output Port 3", 8 VSS (power) "Ground", 9 I/O4 (io) "Input/Output Port 4", 10 I/O5 (io) "Input/Output Port 5", 11 I/O6 (io) "Input/Output Port 6", 12 I/O7 (io) "Input/Output Port 7", 13 ~{INT} (oc) "Interrupt Output (open drain)", 14 SCL (in) "Serial Clock", 15 SDA (io) "Serial Data", 16 VCC (power) "Power Supply"

## CAT9554AYI-G
designator U?
8-Bit I2C and SMBus I/O Port with Interrupt, 2.3 to 5.5 V, -40 to 85 degC, 16-Pin TSSOP, Pb-Free, Tube; Manufacturer: On Semiconductor; PartNumber: CAT9554AYI-G; I/O: 8; LED Blink/PWM: No; VCC Max (V): 5.5; VCC Min (V): 2.3; DatasheetVersion: Rev. 6; PackageVersion: Rev. O, 12/2008; PackageReference: TSSOP-16-948AN-01; PackageDescription: 16-Pin Small Outline Package, Body 5 x 4.4 mm, Pitch 0.65 mm; Supplier 1: Mouser; Supplier Part Number 1: 698-CAT9554AYI-G; Packing: Tube; RoHS: TRUE; Mounting Technology: Surface Mount; Code_JEDEC: MO-153; ComponentLink1Description: Manufacturer URL; ComponentLink1URL: http://www.onsemi.com/; ComponentLink2Description: Datasheet; ComponentLink2URL: http://www.onsemi.com/pub_link/Collateral/CAT9554A-D.PDF; ComponentLink3Description: Package Specification; ComponentLink3URL: http://www.onsemi.com/pub_link/Collateral/948AN.PDF
footprint ONSC-TSSOP-16-948AN-01_N (SOP, 16-Leads, Body 5.1x4.5mm, Pitch 0.65mm, IPC Medium Density)
footprint ONSC-TSSOP-16-948AN-01_L (SOP, 16-Leads, Body 5.1x4.5mm, Pitch 0.65mm, IPC High Density)
footprint ONSC-TSSOP-16-948AN-01_M (SOP, 16-Leads, Body 5.1x4.5mm, Pitch 0.65mm, IPC Low Density)
pins: 1 A0 (in) "Address Input 0", 2 A1 (in) "Address Input 1", 3 A2 (in) "Address Input 2", 4 I/O0 (io) "Input/Output Port 0", 5 I/O1 (io) "Input/Output Port 1", 6 I/O2 (io) "Input/Output Port 2", 7 I/O3 (io) "Input/Output Port 3", 8 VSS (power) "Ground", 9 I/O4 (io) "Input/Output Port 4", 10 I/O5 (io) "Input/Output Port 5", 11 I/O6 (io) "Input/Output Port 6", 12 I/O7 (io) "Input/Output Port 7", 13 ~{INT} (oc) "Interrupt Output (open drain)", 14 SCL (in) "Serial Clock", 15 SDA (io) "Serial Data", 16 VCC (power) "Power Supply"

## CAT9554AYI-GT2
designator U?
8-Bit I2C and SMBus I/O Port with Interrupt, 2.3 to 5.5 V, -40 to 85 degC, 16-Pin TSSOP, Pb-Free, Tape and Reel; Manufacturer: On Semiconductor; PartNumber: CAT9554AYI-GT2; I/O: 8; LED Blink/PWM: No; VCC Max (V): 5.5; VCC Min (V): 2.3; DatasheetVersion: Rev. 6; PackageVersion: Rev. O, 12/2008; PackageReference: TSSOP-16-948AN-01; PackageDescription: 16-Pin Small Outline Package, Body 5 x 4.4 mm, Pitch 0.65 mm; Supplier 1: Digi-Key; Supplier Part Number 1: CAT9554AYI-GT2TR-ND; Supplier 2: Digi-Key; Supplier Part Number 2: CAT9554AYI-GT2CT-ND; Supplier 3: Digi-Key; Supplier Part Number 3: CAT9554AYI-GT2DKR-ND; Supplier 4: Mouser; Supplier Part Number 4: 698-CAT9554AYI-GT2; Packing: Tape and Reel; RoHS: TRUE; Mounting Technology: Surface Mount; Code_JEDEC: MO-153; ComponentLink1Description: Manufacturer URL; ComponentLink1URL: http://www.onsemi.com/; ComponentLink2Description: Datasheet; ComponentLink2URL: http://www.onsemi.com/pub_link/Collateral/CAT9554A-D.PDF; ComponentLink3Description: Package Specification; ComponentLink3URL: http://www.onsemi.com/pub_link/Collateral/948AN.PDF
footprint ONSC-TSSOP-16-948AN-01_N (SOP, 16-Leads, Body 5.1x4.5mm, Pitch 0.65mm, IPC Medium Density)
footprint ONSC-TSSOP-16-948AN-01_L (SOP, 16-Leads, Body 5.1x4.5mm, Pitch 0.65mm, IPC High Density)
footprint ONSC-TSSOP-16-948AN-01_M (SOP, 16-Leads, Body 5.1x4.5mm, Pitch 0.65mm, IPC Low Density)
pins: 1 A0 (in) "Address Input 0", 2 A1 (in) "Address Input 1", 3 A2 (in) "Address Input 2", 4 I/O0 (io) "Input/Output Port 0", 5 I/O1 (io) "Input/Output Port 1", 6 I/O2 (io) "Input/Output Port 2", 7 I/O3 (io) "Input/Output Port 3", 8 VSS (power) "Ground", 9 I/O4 (io) "Input/Output Port 4", 10 I/O5 (io) "Input/Output Port 5", 11 I/O6 (io) "Input/Output Port 6", 12 I/O7 (io) "Input/Output Port 7", 13 ~{INT} (oc) "Interrupt Output (open drain)", 14 SCL (in) "Serial Clock", 15 SDA (io) "Serial Data", 16 VCC (power) "Power Supply"

## CAT9554HV4I-G
designator U?
8-Bit I2C and SMBus I/O Port with Interrupt, 2.3 to 5.5 V, -40 to 85 degC, 16-Pin TQFN, Pb-Free, Tube; Manufacturer: On Semiconductor; PartNumber: CAT9554HV4I-G; I/O: 8; LED Blink/PWM: No; VCC Max (V): 5.5; VCC Min (V): 2.3; DatasheetVersion: Rev. 6; PackageVersion: Rev. A, 03/2009; PackageReference: TQFN-16-510AE-01; PackageDescription: 16-Pin Quad Flat No-Lead, Body 4 x 4 mm, Pitch 0.65 mm; Packing: Tube; RoHS: TRUE; Mounting Technology: Surface Mount; Code_JEDEC: MO-220; ComponentLink1Description: Manufacturer URL; ComponentLink1URL: http://www.onsemi.com/; ComponentLink2Description: Datasheet; ComponentLink2URL: http://www.onsemi.com/pub_link/Collateral/CAT9554-D.PDF; ComponentLink3Description: Package Specification; ComponentLink3URL: http://www.onsemi.com/pub_link/Collateral/510AE.PDF
footprint ONSC-TQFN-16-510AE-01_N (QFN, 16-Leads, Body 4.1x4.1mm, Pitch 0.65mm, Thermal Pad 2.13x2.13mm, IPC Medium Density)
footprint ONSC-TQFN-16-510AE-01_L (QFN, 16-Leads, Body 4.1x4.1mm, Pitch 0.65mm, Thermal Pad 2.13x2.13mm, IPC High Density)
footprint ONSC-TQFN-16-510AE-01_M (QFN, 16-Leads, Body 4.1x4.1mm, Pitch 0.65mm, Thermal Pad 2.13x2.13mm, IPC Low Density)
pins: 1 A2 (in) "Address Input 2", 2 I/O0 (io) "Input/Output Port 0", 3 I/O1 (io) "Input/Output Port 1", 4 I/O2 (io) "Input/Output Port 2", 5 I/O3 (io) "Input/Output Port 3", 6 VSS (power) "Ground", 7 I/O4 (io) "Input/Output Port 4", 8 I/O5 (io) "Input/Output Port 5", 9 I/O6 (io) "Input/Output Port 6", 10 I/O7 (io) "Input/Output Port 7", 11 ~{INT} (oc) "Interrupt Output (open drain)", 12 SCL (in) "Serial Clock", 13 SDA (io) "Serial Data", 14 VCC (power) "Power Supply", 15 A0 (in) "Address Input 0", 16 A1 (in) "Address Input 1", 17 EP

## CAT9554HV4I-GT2
designator U?
8-Bit I2C and SMBus I/O Port with Interrupt, 2.3 to 5.5 V, -40 to 85 degC, 16-Pin TQFN, Pb-Free, Tape and Reel; Manufacturer: On Semiconductor; PartNumber: CAT9554HV4I-GT2; I/O: 8; LED Blink/PWM: No; VCC Max (V): 5.5; VCC Min (V): 2.3; DatasheetVersion: Rev. 6; PackageVersion: Rev. A, 03/2009; PackageReference: TQFN-16-510AE-01; PackageDescription: 16-Pin Quad Flat No-Lead, Body 4 x 4 mm, Pitch 0.65 mm; Supplier 1: Digi-Key; Supplier Part Number 1: CAT9554HV4I-GT2-ND; Supplier 2: Mouser; Supplier Part Number 2: 698-CAT9554HV4I-GT2; Packing: Tape and Reel; RoHS: TRUE; Mounting Technology: Surface Mount; Code_JEDEC: MO-220; ComponentLink1Description: Manufacturer URL; ComponentLink1URL: http://www.onsemi.com/; ComponentLink2Description: Datasheet; ComponentLink2URL: http://www.onsemi.com/pub_link/Collateral/CAT9554-D.PDF; ComponentLink3Description: Package Specification; ComponentLink3URL: http://www.onsemi.com/pub_link/Collateral/510AE.PDF
footprint ONSC-TQFN-16-510AE-01_N (QFN, 16-Leads, Body 4.1x4.1mm, Pitch 0.65mm, Thermal Pad 2.13x2.13mm, IPC Medium Density)
footprint ONSC-TQFN-16-510AE-01_L (QFN, 16-Leads, Body 4.1x4.1mm, Pitch 0.65mm, Thermal Pad 2.13x2.13mm, IPC High Density)
footprint ONSC-TQFN-16-510AE-01_M (QFN, 16-Leads, Body 4.1x4.1mm, Pitch 0.65mm, Thermal Pad 2.13x2.13mm, IPC Low Density)
pins: 1 A2 (in) "Address Input 2", 2 I/O0 (io) "Input/Output Port 0", 3 I/O1 (io) "Input/Output Port 1", 4 I/O2 (io) "Input/Output Port 2", 5 I/O3 (io) "Input/Output Port 3", 6 VSS (power) "Ground", 7 I/O4 (io) "Input/Output Port 4", 8 I/O5 (io) "Input/Output Port 5", 9 I/O6 (io) "Input/Output Port 6", 10 I/O7 (io) "Input/Output Port 7", 11 ~{INT} (oc) "Interrupt Output (open drain)", 12 SCL (in) "Serial Clock", 13 SDA (io) "Serial Data", 14 VCC (power) "Power Supply", 15 A0 (in) "Address Input 0", 16 A1 (in) "Address Input 1", 17 EP

## CAT9554WI-G
designator U?
8-Bit I2C and SMBus I/O Port with Interrupt, 2.3 to 5.5 V, -40 to 85 degC, 16-Pin SOIC, Pb-Free, Tube; Manufacturer: On Semiconductor; PartNumber: CAT9554WI-G; I/O: 8; LED Blink/PWM: No; VCC Max (V): 5.5; VCC Min (V): 2.3; DatasheetVersion: Rev. 6; PackageVersion: Rev. O, 12/2008; PackageReference: SOIC-16-751BG-01; PackageDescription: 16-Pin Small Outline Integrated Circuit, Body 9.9 x 3.9 mm, Pitch 1.27 mm; Supplier 1: Mouser; Supplier Part Number 1: 698-CAT9554WI-G; Packing: Tube; RoHS: TRUE; Mounting Technology: Surface Mount; Code_JEDEC: MS-012; ComponentLink1Description: Manufacturer URL; ComponentLink1URL: http://www.onsemi.com/; ComponentLink2Description: Datasheet; ComponentLink2URL: http://www.onsemi.com/pub_link/Collateral/CAT9554-D.PDF; ComponentLink3Description: Package Specification; ComponentLink3URL: http://www.onsemi.com/pub_link/Collateral/751BG.PDF
footprint ONSC-SOIC-16-751BG-01_N (SOIC, 16-Leads, Body 10x4mm, Pitch 1.27mm, IPC Medium Density)
footprint ONSC-SOIC-16-751BG-01_L (SOIC, 16-Leads, Body 10x4mm, Pitch 1.27mm, IPC High Density)
footprint ONSC-SOIC-16-751BG-01_M (SOIC, 16-Leads, Body 10x4mm, Pitch 1.27mm, IPC Low Density)
pins: 1 A0 (in) "Address Input 0", 2 A1 (in) "Address Input 1", 3 A2 (in) "Address Input 2", 4 I/O0 (io) "Input/Output Port 0", 5 I/O1 (io) "Input/Output Port 1", 6 I/O2 (io) "Input/Output Port 2", 7 I/O3 (io) "Input/Output Port 3", 8 VSS (power) "Ground", 9 I/O4 (io) "Input/Output Port 4", 10 I/O5 (io) "Input/Output Port 5", 11 I/O6 (io) "Input/Output Port 6", 12 I/O7 (io) "Input/Output Port 7", 13 ~{INT} (oc) "Interrupt Output (open drain)", 14 SCL (in) "Serial Clock", 15 SDA (io) "Serial Data", 16 VCC (power) "Power Supply"

## CAT9554WI-GT2
designator U?
8-Bit I2C and SMBus I/O Port with Interrupt, 2.3 to 5.5 V, -40 to 85 degC, 16-Pin SOIC, Pb-Free, Tape and Reel; Manufacturer: On Semiconductor; PartNumber: CAT9554WI-GT2; I/O: 8; LED Blink/PWM: No; VCC Max (V): 5.5; VCC Min (V): 2.3; DatasheetVersion: Rev. 6; PackageVersion: Rev. O, 12/2008; PackageReference: SOIC-16-751BG-01; PackageDescription: 16-Pin Small Outline Integrated Circuit, Body 9.9 x 3.9 mm, Pitch 1.27 mm; Supplier 1: Digi-Key; Supplier Part Number 1: CAT9554WI-GT2TR-ND; Supplier 2: Digi-Key; Supplier Part Number 2: CAT9554WI-GT2CT-ND; Supplier 3: Digi-Key; Supplier Part Number 3: CAT9554WI-GT2DKR-ND; Supplier 4: Mouser; Supplier Part Number 4: 698-CAT9554WI-GT2; Packing: Tape and Reel; RoHS: TRUE; Mounting Technology: Surface Mount; Code_JEDEC: MS-012; ComponentLink1Description: Manufacturer URL; ComponentLink1URL: http://www.onsemi.com/; ComponentLink2Description: Datasheet; ComponentLink2URL: http://www.onsemi.com/pub_link/Collateral/CAT9554-D.PDF; ComponentLink3Description: Package Specification; ComponentLink3URL: http://www.onsemi.com/pub_link/Collateral/751BG.PDF
footprint ONSC-SOIC-16-751BG-01_N (SOIC, 16-Leads, Body 10x4mm, Pitch 1.27mm, IPC Medium Density)
footprint ONSC-SOIC-16-751BG-01_L (SOIC, 16-Leads, Body 10x4mm, Pitch 1.27mm, IPC High Density)
footprint ONSC-SOIC-16-751BG-01_M (SOIC, 16-Leads, Body 10x4mm, Pitch 1.27mm, IPC Low Density)
pins: 1 A0 (in) "Address Input 0", 2 A1 (in) "Address Input 1", 3 A2 (in) "Address Input 2", 4 I/O0 (io) "Input/Output Port 0", 5 I/O1 (io) "Input/Output Port 1", 6 I/O2 (io) "Input/Output Port 2", 7 I/O3 (io) "Input/Output Port 3", 8 VSS (power) "Ground", 9 I/O4 (io) "Input/Output Port 4", 10 I/O5 (io) "Input/Output Port 5", 11 I/O6 (io) "Input/Output Port 6", 12 I/O7 (io) "Input/Output Port 7", 13 ~{INT} (oc) "Interrupt Output (open drain)", 14 SCL (in) "Serial Clock", 15 SDA (io) "Serial Data", 16 VCC (power) "Power Supply"